# EAGLE library part MAX517 (library be_dac)
drawn: Mario Blunk
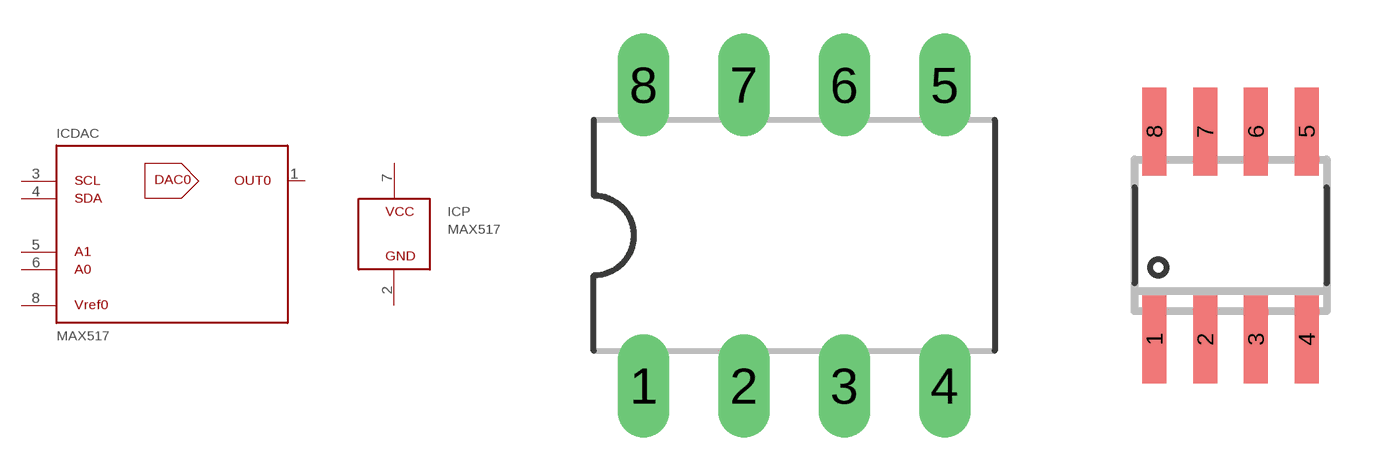
[diagram p0: symbol with the pads of T_NDIP8; footprints T_NDIP8, S_SO8]

Designator prefix IC; gates DAC=MAX517 P=PWR

## MAX517XXPA (BOM: YES; COMMISSIONED: 2015-02-04; PART_CODE_BEL: IC_PAC_T_NDIP8_VAL_MAX517XXPA)  [T_NDIP8]
1  DAC:OUT0  out
2  P:GND  pwr
3  DAC:SCL
4  DAC:SDA
5  DAC:A1  in
6  DAC:A0  in
7  P:VCC  pwr
8  DAC:VREF0  in

## MAX517XXSA (BOM: YES; COMMISSIONED: 2015-02-04; PART_CODE_BEL: IC_PAC_S_SO8_VAL_MAX517XXSA)  [S_SO8]
Pads as for T_NDIP8

## Footprint T_NDIP8 (pad centres in mm)
edited: Mario Blunk / Blunk electronic date: 2015-10-15
drill 0.8 long: 1 -3.82,-3.81; 2 -1.28,-3.81; 3 1.26,-3.81; 4 3.8,-3.81; 5 3.8,3.81; 6 1.26,3.81; 7 -1.28,3.81; 8 -3.82,3.81

## Footprint S_SO8 (pad centres in mm)
edited: Mario Blunk date: 2014-11-20
smd 0.6 x 2.2: 1 -1.905,-2.6; 2 -0.635,-2.6; 3 0.635,-2.6; 4 1.905,-2.6; 5 1.905,2.6; 6 0.635,2.6; 7 -0.635,2.6; 8 -1.905,2.6